# Altium schematic symbol library C2Sv0.1.SchLib: 26 symbols
Pins are listed as number, name and electrical type; pins without a type are passive.

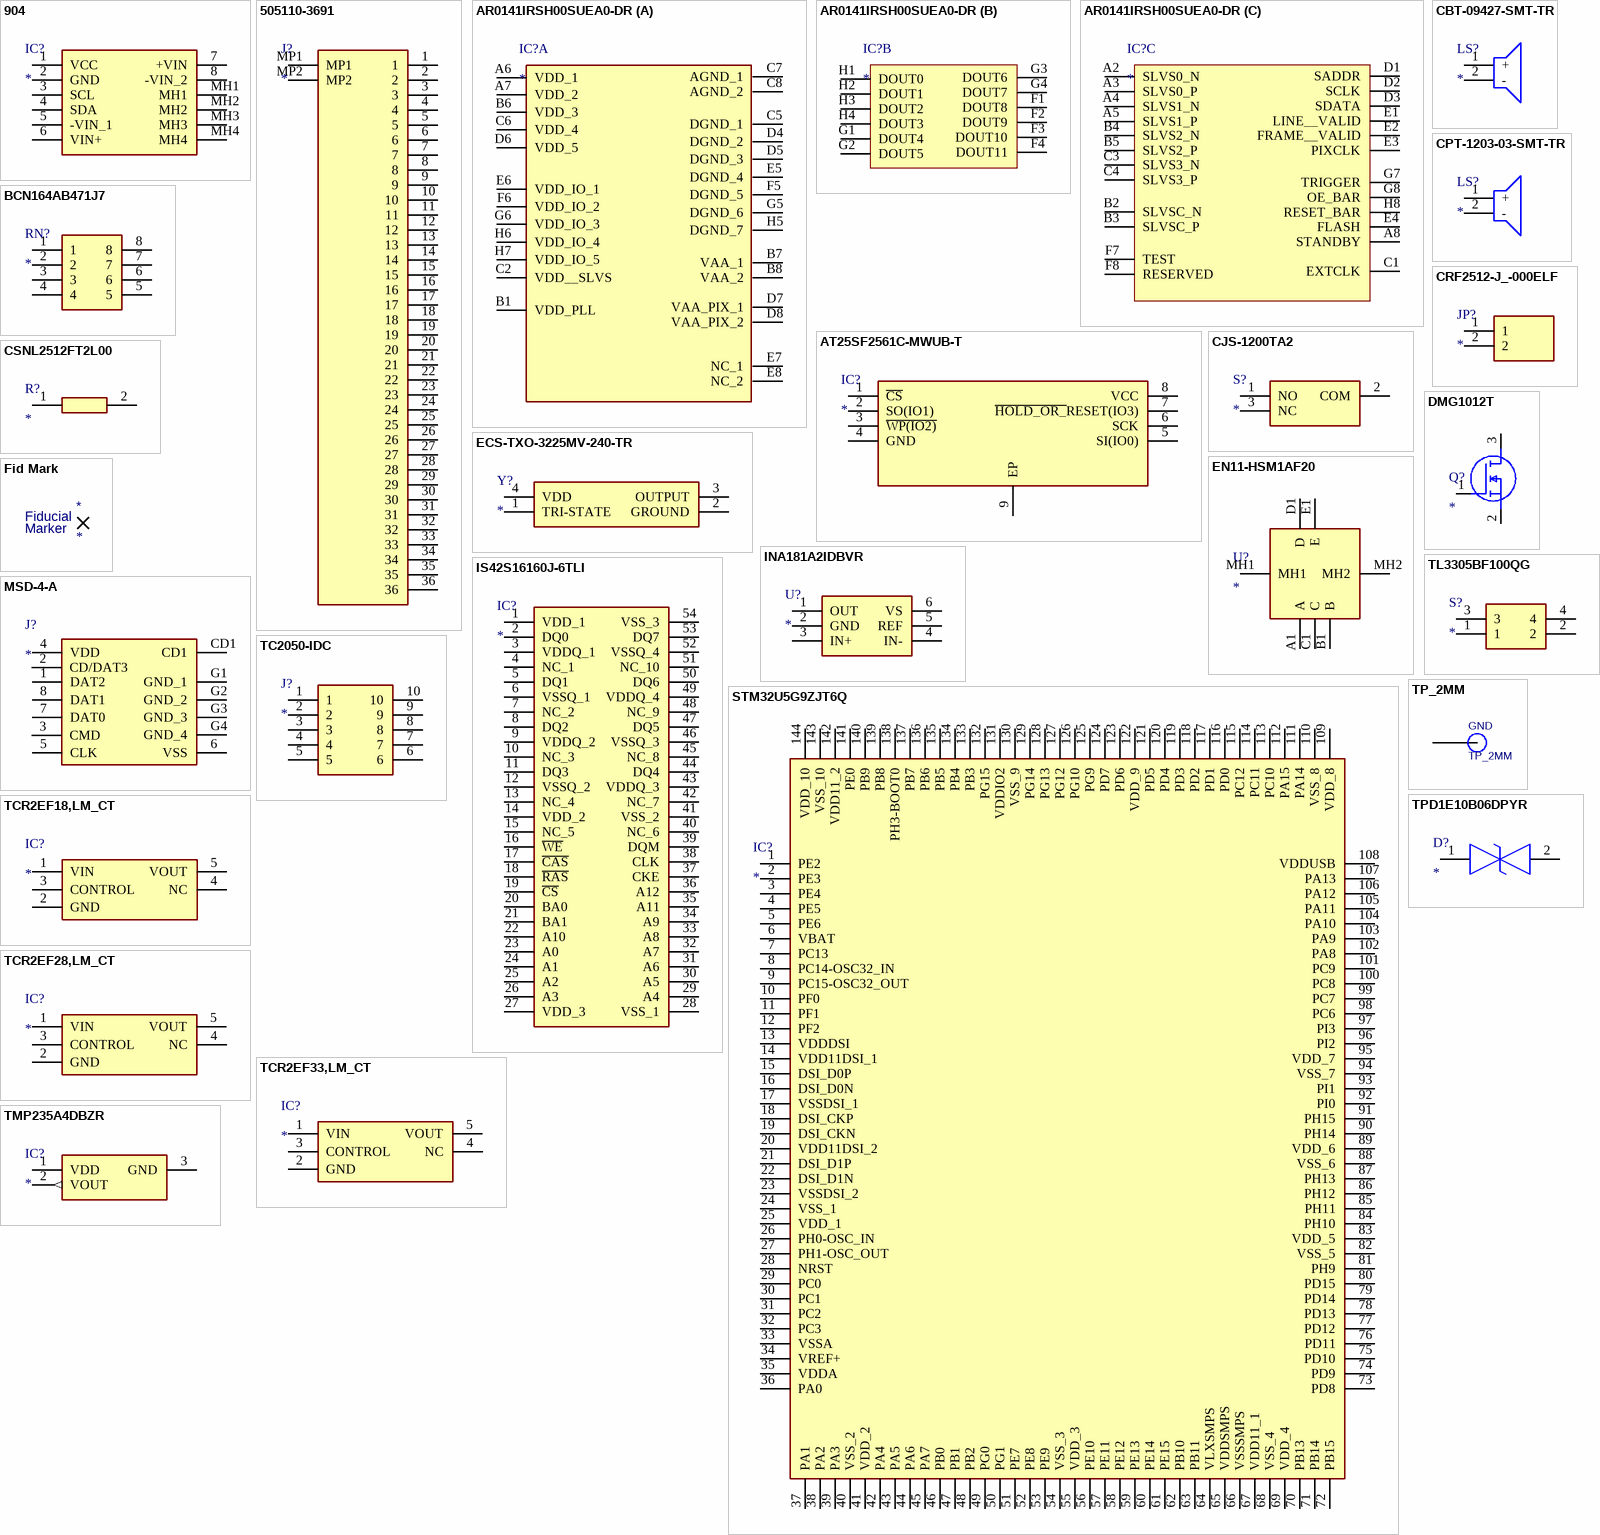
[diagram p0: symbols 904 to TPD1E10B06DPYR]

## 904
designator IC?
Integrated Circuit; Manufacturer_Name: Adafruit; Manufacturer_Part_Number: 904; Datasheet Link: https://learn.adafruit.com/adafruit-ina219-current-sensor-breakout/downloads; Height: 5mm; Mouser Part Number: 485-904; Mouser Price/Stock: https://www.mouser.co.uk/ProductDetail/Adafruit/904?qs=GURawfaeGuDOI%2Fva45%252BkSg%3D%3D; Arrow Part Number: 904; Arrow Price/Stock: https://www.arrow.com/en/products/904/adafruit-industries
footprint 904
pins: 1 VCC, 2 GND, 3 SCL, 4 SDA, 5 -VIN_1, 6 VIN+, 7 +VIN, 8 -VIN_2, MH1, MH2, MH3, MH4

## 505110-3691
designator J?
Connector; Manufacturer_Name: Molex; Manufacturer_Part_Number: 505110-3691; Datasheet Link: https://www.molex.com/content/dam/molex/molex-dot-com/products/automated/en-us/salesdrawingpdf/505/505110/5051103691_sd.pdf; Height: 2.1mm; Mouser Part Number: N/A; Mouser Price/Stock: https://www.mouser.com/Search/Refine.aspx?Keyword=N%2FA
footprint 5051103691
pins: 1, 2, 3, 4, 5, 6, 7, 8, 9, 10, 11, 12, 13, 14, 15, 16, 17, 18, 19, 20, 21, 22, 23, 24, 25, 26, 27, 28, 29, 30, 31, 32, 33, 34, 35, 36, MP1, MP2

## AR0141IRSH00SUEA0-DR
designator IC?
Integrated Circuit; Manufacturer_Name: onsemi; Manufacturer_Part_Number: AR0141IRSH00SUEA0-DR; Datasheet Link: https://au.mouser.com/datasheet/2/308/1/ONSM_S_A0003550741_1-2560416.pdf; Height: 1.4mm
footprint BGA63C100P8X8_900X900X140
part A pins: A6 VDD_1, A7 VDD_2, B1 VDD_PLL, B6 VDD_3, B7 VAA_1, B8 VAA_2, C2 VDD__SLVS, C5 DGND_1, C6 VDD_4, C7 AGND_1, C8 AGND_2, D4 DGND_2, D5 DGND_3, D6 VDD_5, D7 VAA_PIX_1, D8 VAA_PIX_2, E5 DGND_4, E6 VDD_IO_1, E7 NC_1, E8 NC_2, F5 DGND_5, F6 VDD_IO_2, G5 DGND_6, G6 VDD_IO_3, H5 DGND_7, H6 VDD_IO_4, H7 VDD_IO_5
part B pins: F1 DOUT8, F2 DOUT9, F3 DOUT10, F4 DOUT11, G1 DOUT4, G2 DOUT5, G3 DOUT6, G4 DOUT7, H1 DOUT0, H2 DOUT1, H3 DOUT2, H4 DOUT3
part C pins: A2 SLVS0_N, A3 SLVS0_P, A4 SLVS1_N, A5 SLVS1_P, A8 STANDBY, B2 SLVSC_N, B3 SLVSC_P, B4 SLVS2_N, B5 SLVS2_P, C1 EXTCLK, C3 SLVS3_N, C4 SLVS3_P, D1 SADDR, D2 SCLK, D3 SDATA, E1 LINE__VALID, E2 FRAME__VALID, E3 PIXCLK, E4 FLASH, F7 TEST, F8 RESERVED, G7 TRIGGER, G8 OE_BAR, H8 RESET_BAR

## AT25SF2561C-MWUB-T
designator IC?
Integrated Circuit; Manufacturer_Name: Renesas Electronics; Manufacturer_Part_Number: AT25SF2561C-MWUB-T; Datasheet Link: https://www.renesas.com/us/en/products/memory-logic/non-volatile-memory/spi-nor-flash/at25sf2561c-256mbit-3v-spi-serial-flash-memory-single-dual-quad-io-qpi-and-dtr-support; Height: 0.8mm
footprint SON127P800X600X80-9N-D
pins: 1 ~{CS}, 2 SO(IO1), 3 ~{WP(IO2)}, 4 GND, 5 SI(IO0), 6 SCK, 7 ~{HOLD_OR_}RESET(IO3), 8 VCC, 9 EP

## BCN164AB471J7
designator RN?
Resistor Network; Manufacturer_Name: TT Electronics; Manufacturer_Part_Number: BCN164AB471J7; Datasheet Link: https://www.mouser.com/datasheet/2/414/BCN-1154942.pdf; Height: 0.6mm; Mouser Part Number: 858-BCN164AB471J7
footprint BCN164AB471J7
pins: 1, 2, 3, 4, 5, 6, 7, 8

## CBT-09427-SMT-TR
designator LS?
Loudspeaker or Buzzer; Manufacturer_Name: Same Sky; Manufacturer_Part_Number: CBT-09427-SMT-TR; Datasheet Link: https://www.sameskydevices.com/product/resource/cbt-09427-smt-tr.pdf; Height: 2.7mm; Mouser Part Number: 490-CBT-09427-SMT-TR; Mouser Price/Stock: https://www.mouser.co.uk/ProductDetail/Same-Sky/CBT-09427-SMT-TR?qs=3yDvfGtJnUwSpp62uPMpGQ%3D%3D; Arrow Part Number: CBT-09427-SMT-TR; Arrow Price/Stock: https://www.arrow.com/en/products/cbt-09427-smt-tr/cui-devices?region=nac
footprint CBT09427SMTTR
pins: 1 +, 2 -

## CJS-1200TA2
designator S?
Switch; Manufacturer_Name: Nidec Copal; Manufacturer_Part_Number: CJS-1200TA2; Datasheet Link: http://www.nidec-copal-electronics.com/j/catalog/switch/cjs.pdf; Height: 2.5mm; Mouser Part Number: 229-CJS-1200TA2; Mouser Price/Stock: https://www.mouser.co.uk/ProductDetail/Nidec-Components/CJS-1200TA2?qs=XeJtXLiO41Rf26ws0igWdA%3D%3D
footprint CJS1200TA2
pins: 1 NO, 2 COM, 3 NC

## CPT-1203-03-SMT-TR
designator LS?
Loudspeaker or Buzzer; Manufacturer_Name: Same Sky; Manufacturer_Part_Number: CPT-1203-03-SMT-TR; Datasheet Link: https://www.sameskydevices.com/product/resource/cpt-1203-03-smt-tr.pdf; Mouser Part Number: 179-CPT-1203-03SMTTR; Mouser Price/Stock: https://www.mouser.co.uk/ProductDetail/Same-Sky/CPT-1203-03-SMT-TR?qs=olJun0bQHM9CieLABGpPUw%3D%3D
footprint CPT120303SMTTR
pins: 1 +, 2 -

## CRF2512-J_-000ELF
designator JP?
Link (Jumper); Manufacturer_Name: Bourns; Manufacturer_Part_Number: CRF2512-J/-000ELF; Datasheet Link: https://www.bourns.com/docs/Product-Datasheets/CRF-J.pdf; Height: 0.9mm; Mouser Part Number: 652-CRF2512-J-000ELF; Mouser Price/Stock: https://www.mouser.co.uk/ProductDetail/Bourns/CRF2512-J-000ELF?qs=MyNHzdoqoQJteyBle4dCIg%3D%3D
footprint CRF2512J000ELF
pins: 1, 2

## CSNL2512FT2L00
designator R?
Resistor; Manufacturer_Name: Stackpole Electronics; Manufacturer_Part_Number: CSNL2512FT2L00; Datasheet Link: https://cs.seielect.com/catalog/SEI-CSNL.pdf; Height: 1.45mm; Arrow Part Number: CSNL2512FT2L00; Arrow Price/Stock: https://www.arrow.com/en/products/csnl2512ft2l00/stackpole-electronics?region=nac
footprint RESC6432X145N
pins: 1, 2

## DMG1012T
designator Q?
MOSFET (N-Channel); Manufacturer_Name: Diodes Incorporated; Manufacturer_Part_Number: DMG1012T; Datasheet Link: https://www.diodes.com/datasheet/download/DMG1012T.pdf; Height: 0.9mm; Mouser Part Number: N/A; Mouser Price/Stock: https://www.mouser.co.uk/ProductDetail/Diodes-Incorporated/DMG1012T?qs=Wj%2FVkw3K%252BMD5naxckZUW%2FA%3D%3D
footprint SOT50P160X90-3N
pins: 1 G, 2 S, 3 D

## ECS-TXO-3225MV-240-TR
designator Y?
Crystal or Oscillator; Manufacturer_Name: ECS; Manufacturer_Part_Number: ECS-TXO-3225MV-240-TR; Datasheet Link: https://eu.mouser.com/datasheet/2/122/ECS-TXO-3225MV-1634330.pdf; Height: 1.2mm; Mouser Part Number: 520-TXO-3225MV-240-T; Mouser Price/Stock: https://www.mouser.co.uk/ProductDetail/ECS/ECS-TXO-3225MV-240-TR?qs=d0WKAl%252BL4KYXn7UuwSFJGQ%3D%3D; Arrow Part Number: ECS-TXO-3225MV-240-TR; Arrow Price/Stock: https://www.arrow.com/en/products/ecs-txo-3225mv-240-tr/ecs-international?region=nac
footprint ECSTXO3225MV240TR
pins: 1 TRI-STATE, 2 GROUND, 3 OUTPUT, 4 VDD

## EN11-HSM1AF20
designator U?
Undefined or Miscellaneous; Manufacturer_Name: TT Electronics; Manufacturer_Part_Number: EN11-HSM1AF20; Datasheet Link: https://datasheet.datasheetarchive.com/originals/distributors/Datasheets_SAMA/2e239bccdca13b9604c0057335e160d7.pdf; Height: 27.1mm; Mouser Part Number: 858-EN11-HSM1AF20; Mouser Price/Stock: https://www.mouser.co.uk/ProductDetail/BI-Technologies-TT-Electronics/EN11-HSM1AF20?qs=%252BUYXD5bnyXqPYOUPwiF4VA%3D%3D
footprint EN11HSM1AF20
pins: A1 A, B1 B, C1 C, D1 D, E1 E, MH1, MH2

## Fid Mark
designator *
footprint Fid Marker
text: Fiducial; Marker

## INA181A2IDBVR
designator U?
Undefined or Miscellaneous; Manufacturer_Name: Texas Instruments; Manufacturer_Part_Number: INA181A2IDBVR; Datasheet Link: http://www.ti.com/general/docs/suppproductinfo.tsp?distId=26&gotoUrl=http%3A%2F%2Fwww.ti.com%2Flit%2Fgpn%2Fina181; Height: 1.45mm; Mouser Part Number: 595-INA181A2IDBVR; Mouser Price/Stock: https://www.mouser.co.uk/ProductDetail/Texas-Instruments/INA181A2IDBVR?qs=5aG0NVq1C4wvxWxbAGEmKw%3D%3D; Arrow Part Number: INA181A2IDBVR; Arrow Price/Stock: https://www.arrow.com/en/products/ina181a2idbvr/texas-instruments?utm_currency=USD&region=nac
footprint SOT95P280X145-6N
pins: 1 OUT, 2 GND, 3 IN+, 4 IN-, 5 REF, 6 VS

## IS42S16160J-6TLI
designator IC?
Integrated Circuit; Manufacturer_Name: Integrated Silicon Solution Inc.; Manufacturer_Part_Number: IS42S16160J-6TLI; Datasheet Link: http://www.issi.com/WW/pdf/42-45S83200J-16160J.pdf; Height: 1.2mm; Mouser Part Number: 870-IS42S16160J-6TLI; Mouser Price/Stock: https://www.mouser.co.uk/ProductDetail/ISSI/IS42S16160J-6TLI?qs=uCnMRCNammnPM1KYGjAdhA%3D%3D; Arrow Part Number: IS42S16160J-6TLI; Arrow Price/Stock: https://www.arrow.com/en/products/is42s16160j-6tli/integrated-silicon-solution-inc?region=nac
footprint SOP80P1176X120-54N
pins: 1 VDD_1, 2 DQ0, 3 VDDQ_1, 4 NC_1, 5 DQ1, 6 VSSQ_1, 7 NC_2, 8 DQ2, 9 VDDQ_2, 10 NC_3, 11 DQ3, 12 VSSQ_2, 13 NC_4, 14 VDD_2, 15 NC_5, 16 ~{WE}, 17 ~{CAS}, 18 ~{RAS}, 19 ~{CS}, 20 BA0, 21 BA1, 22 A10, 23 A0, 24 A1, 25 A2, 26 A3, 27 VDD_3, 28 VSS_1, 29 A4, 30 A5, 31 A6, 32 A7, 33 A8, 34 A9, 35 A11, 36 A12, 37 CKE, 38 CLK, 39 DQM, 40 NC_6, 41 VSS_2, 42 NC_7, 43 VDDQ_3, 44 DQ4, 45 NC_8, 46 VSSQ_3, 47 DQ5, 48 NC_9, 49 VDDQ_4, 50 DQ6, 51 NC_10, 52 VSSQ_4, 53 DQ7, 54 VSS_3

## MSD-4-A
designator J?
Connector; Manufacturer_Name: Same Sky; Manufacturer_Part_Number: MSD-4-A; Datasheet Link: https://www.sameskydevices.com/product/resource/msd-4-a.pdf; Height: 2mm; Mouser Part Number: 179-MSD-4-A; Mouser Price/Stock: https://www.mouser.co.uk/ProductDetail/Same-Sky/MSD-4-A?qs=Z%252BL2brAPG1Jll%252BQTi%252Btupg%3D%3D; Arrow Part Number: MSD-4-A; Arrow Price/Stock: https://www.arrow.com/en/products/msd-4-a/cui-devices?utm_currency=USD&region=nac
footprint MSD4A
pins: 1 DAT2, 2 CD/DAT3, 3 CMD, 4 VDD, 5 CLK, 6 VSS, 7 DAT0, 8 DAT1, CD1, G1 GND_1, G2 GND_2, G3 GND_3, G4 GND_4

## STM32U5G9ZJT6Q
designator IC?
Integrated Circuit; Manufacturer_Name: STMicroelectronics; Manufacturer_Part_Number: STM32U5G9ZJT6Q; Datasheet Link: https://www.st.com/resource/en/datasheet/stm32u5g7vj.pdf; Height: 1.6mm; Mouser Part Number: 511-STM32U5G9ZJT6Q; Mouser Price/Stock: https://www.mouser.co.uk/ProductDetail/STMicroelectronics/STM32U5G9ZJT6Q?qs=pBunHO6%252BwtHTKyjOWi%252Btmg%3D%3D; Arrow Part Number: STM32U5G9ZJT6Q; Arrow Price/Stock: https://www.arrow.com/en/products/stm32u5g9zjt6q/stmicroelectronics?utm_currency=USD&region=nac
footprint QFP50P2200X2200X160-144N
pins: 1 PE2, 2 PE3, 3 PE4, 4 PE5, 5 PE6, 6 VBAT, 7 PC13, 8 PC14-OSC32_IN, 9 PC15-OSC32_OUT, 10 PF0, 11 PF1, 12 PF2, 13 VDDDSI, 14 VDD11DSI_1, 15 DSI_D0P, 16 DSI_D0N, 17 VSSDSI_1, 18 DSI_CKP, 19 DSI_CKN, 20 VDD11DSI_2, 21 DSI_D1P, 22 DSI_D1N, 23 VSSDSI_2, 24 VSS_1, 25 VDD_1, 26 PH0-OSC_IN, 27 PH1-OSC_OUT, 28 NRST, 29 PC0, 30 PC1, 31 PC2, 32 PC3, 33 VSSA, 34 VREF+, 35 VDDA, 36 PA0, 37 PA1, 38 PA2, 39 PA3, 40 VSS_2, 41 VDD_2, 42 PA4, 43 PA5, 44 PA6, 45 PA7, 46 PB0, 47 PB1, 48 PB2, 49 PG0, 50 PG1, 51 PE7, 52 PE8, 53 PE9, 54 VSS_3, 55 VDD_3, 56 PE10, 57 PE11, 58 PE12, 59 PE13, 60 PE14, 61 PE15, 62 PB10, 63 PB11, 64 VLXSMPS, 65 VDDSMPS, 66 VSSSMPS, 67 VDD11_1, 68 VSS_4, 69 VDD_4, 70 PB13, 71 PB14, 72 PB15, 73 PD8, 74 PD9, 75 PD10, 76 PD11, 77 PD12, 78 PD13, 79 PD14, 80 PD15, 81 PH9, 82 VSS_5, 83 VDD_5, 84 PH10, 85 PH11, 86 PH12, 87 PH13, 88 VSS_6, 89 VDD_6, 90 PH14, 91 PH15, 92 PI0, 93 PI1, 94 VSS_7, 95 VDD_7, 96 PI2, 97 PI3, 98 PC6, 99 PC7, 100 PC8, 101 PC9, 102 PA8, 103 PA9, 104 PA10, 105 PA11, 106 PA12, 107 PA13, 108 VDDUSB, 109 VDD_8, 110 VSS_8, 111 PA14, 112 PA15, 113 PC10, 114 PC11, 115 PC12, 116 PD0, 117 PD1, 118 PD2, 119 PD3, 120 PD4, 121 PD5, 122 VDD_9, 123 PD6, 124 PD7, 125 PG9, 126 PG10, 127 PG12, 128 PG13, 129 PG14, 130 VSS_9, 131 VDDIO2, 132 PG15, 133 PB3, 134 PB4, 135 PB5, 136 PB6, 137 PB7, 138 PH3-BOOT0, 139 PB8, 140 PB9, 141 PE0, 142 VDD11_2, 143 VSS_10, 144 VDD_10

## TC2050-IDC
designator J?
Connector; Manufacturer_Name: Tag Connect; Manufacturer_Part_Number: TC2050-IDC; Datasheet Link: https://datasheet.datasheetarchive.com/originals/distributors/Datasheets_SAMA/51f607a36a24a0aceedaa5d6ebc30014.pdf
footprint TC2050-IDC
footprint TC2050-IDC
pins: 1, 2, 3, 4, 5, 6, 7, 8, 9, 10

## TCR2EF18,LM_CT
designator IC?
Integrated Circuit; Manufacturer_Name: Toshiba; Manufacturer_Part_Number: TCR2EF18,LM(CT; Datasheet Link: https://toshiba.semicon-storage.com/info/TCR2EF18_datasheet_ja_20200507.pdf?did=13793&prodName=TCR2EF18; Height: 1.4mm; Mouser Part Number: 757-TCR2EF18LMCT; Mouser Price/Stock: https://www.mouser.co.uk/ProductDetail/Toshiba/TCR2EF18LMCT?qs=EPmvyOv1YlMU%252B9uLgN8FiA%3D%3D; Arrow Part Number: TCR2EF18,LM(CT; Arrow Price/Stock: http://www.arrow.com/en/products/tcr2ef18lm-ct/toshiba
footprint TCR2EF18LMCT
pins: 1 VIN, 2 GND, 3 CONTROL, 4 NC, 5 VOUT

## TCR2EF28,LM_CT
designator IC?
Integrated Circuit; Manufacturer_Name: Toshiba; Manufacturer_Part_Number: TCR2EF28,LM(CT; Datasheet Link: https://toshiba.semicon-storage.com/info/docget.jsp?did=13794&prodName=TCR2EF28; Height: 1.4mm; Mouser Part Number: 757-TCR2EF28LMCT; Mouser Price/Stock: https://www.mouser.co.uk/ProductDetail/Toshiba/TCR2EF28LMCT?qs=cW4DzVrAanOy43sfBSrpyQ%3D%3D; Arrow Part Number: TCR2EF28,LM(CT; Arrow Price/Stock: https://www.arrow.com/en/products/tcr2ef28lm-ct/toshiba?utm_currency=USD&region=nac
footprint TCR2EF28LMCT
pins: 1 VIN, 2 GND, 3 CONTROL, 4 NC, 5 VOUT

## TCR2EF33,LM_CT
designator IC?
Integrated Circuit; Manufacturer_Name: Toshiba; Manufacturer_Part_Number: TCR2EF33,LM(CT; Datasheet Link: https://toshiba.semicon-storage.com/eu/product/linear/power-supply/detail.TCR2EF33.html; Mouser Part Number: 757-TCR2EF33LMCT; Mouser Price/Stock: https://www.mouser.co.uk/ProductDetail/Toshiba/TCR2EF33LMCT?qs=EPmvyOv1YlPmhsvS3PaWfg%3D%3D; Arrow Part Number: TCR2EF33,LM(CT; Arrow Price/Stock: https://www.arrow.com/en/products/tcr2ef33lm-ct/toshiba?region=nac
footprint SOT-25
pins: 1 VIN, 2 GND, 3 CONTROL, 4 NC, 5 VOUT

## TL3305BF100QG
designator S?
Switch; Manufacturer_Name: E-Switch; Manufacturer_Part_Number: TL3305BF100QG; Datasheet Link: https://configured-product-images.s3.amazonaws.com/2D/specs/TL3305BF100QG.pdf; Mouser Part Number: 612-TL3305BF100QG; Mouser Price/Stock: https://www.mouser.co.uk/ProductDetail/E-Switch/TL3305BF100QG?qs=IKkN%2F947nfDIPwqPQja%252BvQ%3D%3D
footprint TL3305BF100QG
pins: 1, 2, 3, 4

## TMP235A4DBZR
designator IC?
Integrated Circuit; Manufacturer_Name: Texas Instruments; Manufacturer_Part_Number: TMP235A4DBZR; Datasheet Link: http://www.ti.com/lit/gpn/tmp235; Height: 1.12mm; Mouser Part Number: 595-TMP235A4DBZR; Mouser Price/Stock: https://www.mouser.co.uk/ProductDetail/Texas-Instruments/TMP235A4DBZR?qs=lc2O%252BfHJPVYFE4gupiq78Q%3D%3D; Arrow Part Number: TMP235A4DBZR; Arrow Price/Stock: https://www.arrow.com/en/products/tmp235a4dbzr/texas-instruments?utm_currency=USD&region=nac
footprint SOT95P237X112-3N
pins: 1 VDD (power), 2 VOUT (out), 3 GND (power)

## TP_2MM
designator GND
footprint TESTPOINT 2MM
pins: TP TP_2MM

## TPD1E10B06DPYR
designator D?
TVS Diode (Bi-directional); Manufacturer_Name: Texas Instruments; Manufacturer_Part_Number: TPD1E10B06DPYR; Datasheet Link: https://www.ti.com/lit/ds/symlink/tpd1e10b06.pdf?HQS=TI-null-null-mousermode-df-pf-null-wwe&ts=1599077798252&ref_url=https%253A%252F%252Fwww.mouser.com%252F; Height: 0.45mm; Mouser Part Number: 595-TPD1E10B06DPYR; Mouser Price/Stock: https://www.mouser.co.uk/ProductDetail/Texas-Instruments/TPD1E10B06DPYR?qs=UFc95S4Z4CaJYpQ4xqTc0g%3D%3D; Arrow Part Number: TPD1E10B06DPYR; Arrow Price/Stock: https://www.arrow.com/en/products/tpd1e10b06dpyr/texas-instruments?region=nac
footprint TPD1E10B06DPYR
pins: 1, 2